# Altium schematic symbol library Schlib_Scondar.SchLib: 28 symbols
Pins are listed as number, name and electrical type; pins without a type are passive.

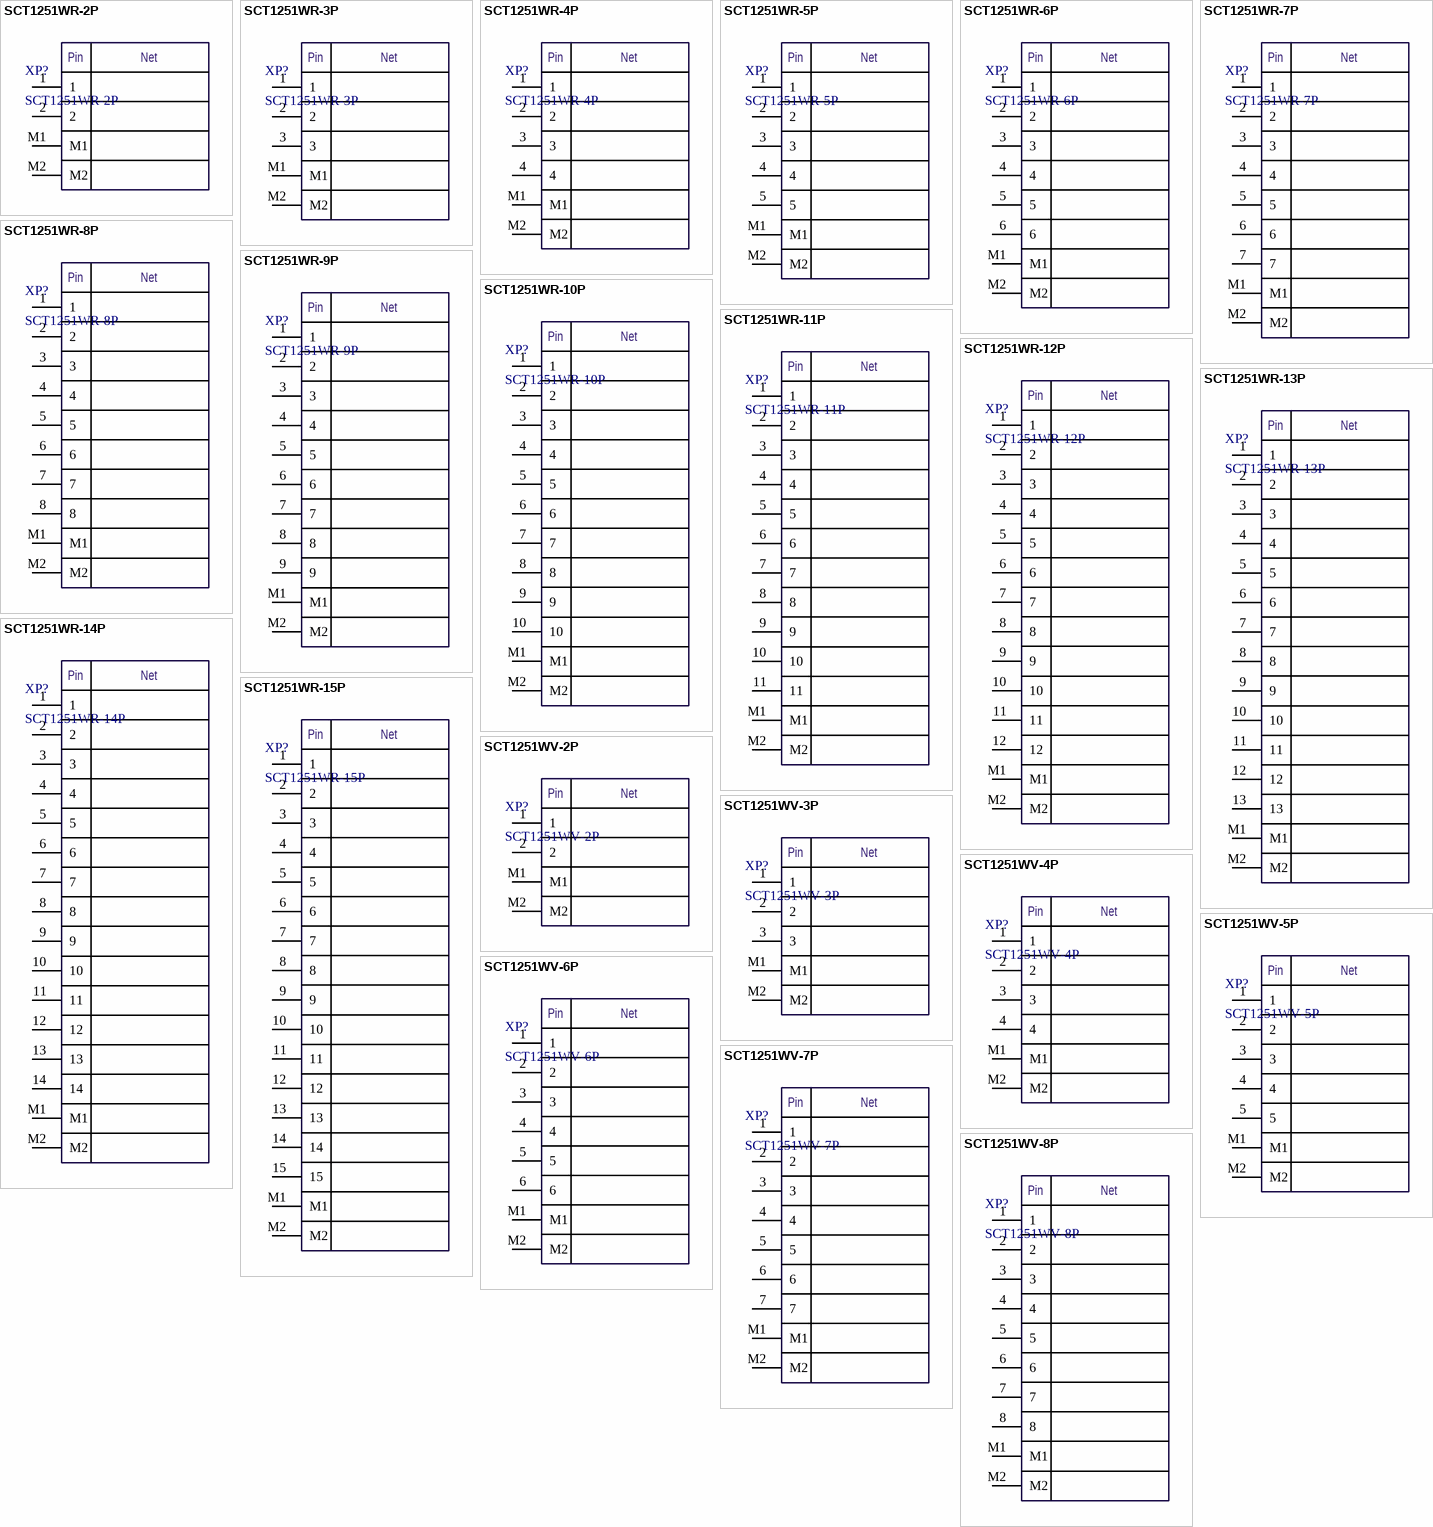
[diagram p0: symbols SCT1251WR-2P to SCT1251WV-8P]

## SCT1251WR-2P
designator XP?
Pico Blade 1.25mm pitch, 2 pos; Manufacturer: Scondar; Part Number: SCT1251WR-2P
footprint SCT1251WR-2P
pins: 1, 2, M1, M2
text: Pin; Net

## SCT1251WR-3P
designator XP?
Pico Blade 1.25mm pitch, 3 pos; Manufacturer: Scondar; Part Number: SCT1251WR-3P
footprint SCT1251WR-3P
pins: 1, 2, 3, M1, M2
text: Pin; Net

## SCT1251WR-4P
designator XP?
Pico Blade 1.25mm pitch, 4 pos; Manufacturer: Scondar; Part Number: SCT1251WR-4P
footprint SCT1251WR-4P
pins: 1, 2, 3, 4, M1, M2
text: Pin; Net

## SCT1251WR-5P
designator XP?
Pico Blade 1.25mm pitch, 5 pos; Manufacturer: Scondar; Part Number: SCT1251WR-5P
footprint SCT1251WR-5P
pins: 1, 2, 3, 4, 5, M1, M2
text: Pin; Net

## SCT1251WR-6P
designator XP?
Pico Blade 1.25mm pitch, 6 pos; Manufacturer: Scondar; Part Number: SCT1251WR-6P
footprint SCT1251WR-6P
pins: 1, 2, 3, 4, 5, 6, M1, M2
text: Pin; Net

## SCT1251WR-7P
designator XP?
Pico Blade 1.25mm pitch, 7 pos; Manufacturer: Scondar; Part Number: SCT1251WR-7P
footprint SCT1251WR-7P
pins: 1, 2, 3, 4, 5, 6, 7, M1, M2
text: Pin; Net

## SCT1251WR-8P
designator XP?
Pico Blade 1.25mm pitch, 8 pos; Manufacturer: Scondar; Part Number: SCT1251WR-8P
footprint SCT1251WR-8P
pins: 1, 2, 3, 4, 5, 6, 7, 8, M1, M2
text: Pin; Net

## SCT1251WR-9P
designator XP?
Pico Blade 1.25mm pitch, 9 pos; Manufacturer: Scondar; Part Number: SCT1251WR-9P
footprint SCT1251WR-9P
pins: 1, 2, 3, 4, 5, 6, 7, 8, 9, M1, M2
text: Pin; Net

## SCT1251WR-10P
designator XP?
Pico Blade 1.25mm pitch, 10 pos; Manufacturer: Scondar; Part Number: SCT1251WR-10P
footprint SCT1251WR-10P
pins: 1, 2, 3, 4, 5, 6, 7, 8, 9, 10, M1, M2
text: Pin; Net

## SCT1251WR-11P
designator XP?
Pico Blade 1.25mm pitch, 11 pos; Manufacturer: Scondar; Part Number: SCT1251WR-11P
footprint SCT1251WR-11P
pins: 1, 2, 3, 4, 5, 6, 7, 8, 9, 10, 11, M1, M2
text: Pin; Net

## SCT1251WR-12P
designator XP?
Pico Blade 1.25mm pitch, 12 pos; Manufacturer: Scondar; Part Number: SCT1251WR-12P
footprint SCT1251WR-12P
pins: 1, 2, 3, 4, 5, 6, 7, 8, 9, 10, 11, 12, M1, M2
text: Pin; Net

## SCT1251WR-13P
designator XP?
Pico Blade 1.25mm pitch, 13 pos; Manufacturer: Scondar; Part Number: SCT1251WR-13P
footprint SCT1251WR-13P
pins: 1, 2, 3, 4, 5, 6, 7, 8, 9, 10, 11, 12, 13, M1, M2
text: Pin; Net

## SCT1251WR-14P
designator XP?
Pico Blade 1.25mm pitch, 14 pos; Manufacturer: Scondar; Part Number: SCT1251WR-14P
footprint SCT1251WR-14P
pins: 1, 2, 3, 4, 5, 6, 7, 8, 9, 10, 11, 12, 13, 14, M1, M2
text: Pin; Net

## SCT1251WR-15P
designator XP?
Pico Blade 1.25mm pitch, 15 pos; Manufacturer: Scondar; Part Number: SCT1251WR-15P
footprint SCT1251WR-15P
pins: 1, 2, 3, 4, 5, 6, 7, 8, 9, 10, 11, 12, 13, 14, 15, M1, M2
text: Pin; Net

## SCT1251WV-2P
designator XP?
Pico Blade 1.25mm pitch, 2 pos; Manufacturer: Scondar; Part Number: SCT1251WV-2P
footprint SCT1251WV-2P
pins: 1, 2, M1, M2
text: Pin; Net

## SCT1251WV-3P
designator XP?
Pico Blade 1.25mm pitch, 3 pos; Manufacturer: Scondar; Part Number: SCT1251WV-3P
footprint SCT1251WV-3P
pins: 1, 2, 3, M1, M2
text: Pin; Net

## SCT1251WV-4P
designator XP?
Pico Blade 1.25mm pitch, 4 pos; Manufacturer: Scondar; Part Number: SCT1251WV-4P
footprint SCT1251WV-4P
pins: 1, 2, 3, 4, M1, M2
text: Pin; Net

## SCT1251WV-5P
designator XP?
Pico Blade 1.25mm pitch, 5 pos; Manufacturer: Scondar; Part Number: SCT1251WV-5P
footprint SCT1251WV-5P
pins: 1, 2, 3, 4, 5, M1, M2
text: Pin; Net

## SCT1251WV-6P
designator XP?
Pico Blade 1.25mm pitch, 6 pos; Manufacturer: Scondar; Part Number: SCT1251WV-6P
footprint SCT1251WV-6P
pins: 1, 2, 3, 4, 5, 6, M1, M2
text: Pin; Net

## SCT1251WV-7P
designator XP?
Pico Blade 1.25mm pitch, 7 pos; Manufacturer: Scondar; Part Number: SCT1251WV-7P
footprint SCT1251WV-7P
pins: 1, 2, 3, 4, 5, 6, 7, M1, M2
text: Pin; Net

## SCT1251WV-8P
designator XP?
Pico Blade 1.25mm pitch, 8 pos; Manufacturer: Scondar; Part Number: SCT1251WV-8P
footprint SCT1251WV-8P
pins: 1, 2, 3, 4, 5, 6, 7, 8, M1, M2
text: Pin; Net

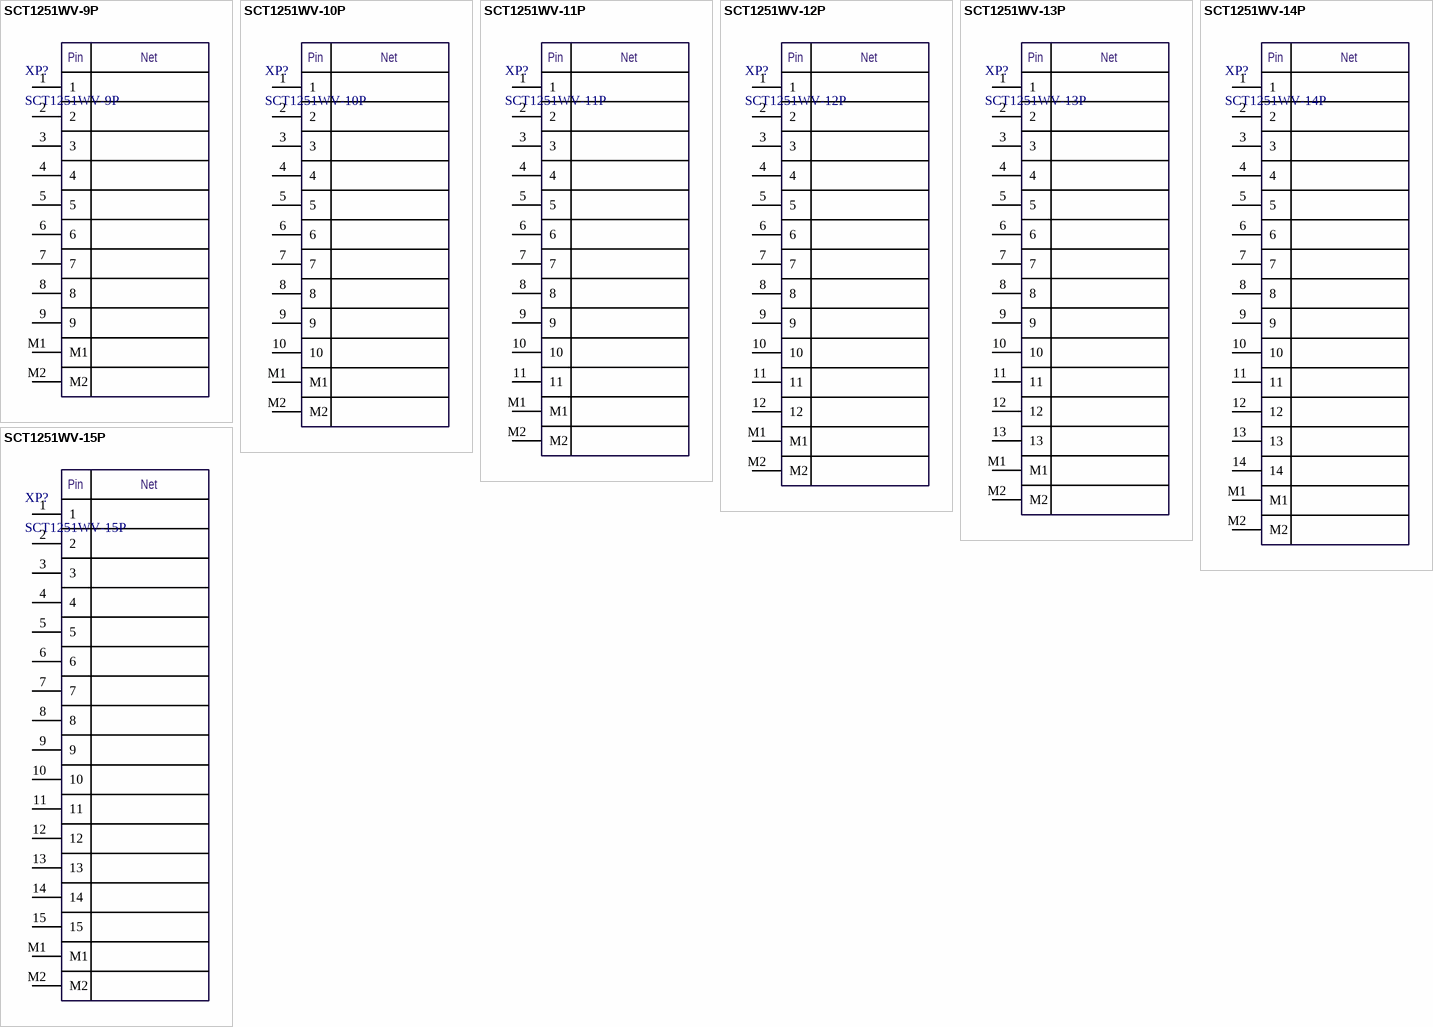
[diagram p1: symbols SCT1251WV-9P to SCT1251WV-15P]

## SCT1251WV-9P
designator XP?
Pico Blade 1.25mm pitch, 9 pos; Manufacturer: Scondar; Part Number: SCT1251WV-9P
footprint SCT1251WV-9P
pins: 1, 2, 3, 4, 5, 6, 7, 8, 9, M1, M2
text: Pin; Net

## SCT1251WV-10P
designator XP?
Pico Blade 1.25mm pitch, 10 pos; Manufacturer: Scondar; Part Number: SCT1251WV-10P
footprint SCT1251WV-10P
pins: 1, 2, 3, 4, 5, 6, 7, 8, 9, 10, M1, M2
text: Pin; Net

## SCT1251WV-11P
designator XP?
Pico Blade 1.25mm pitch, 11 pos; Manufacturer: Scondar; Part Number: SCT1251WV-11P
footprint SCT1251WV-11P
pins: 1, 2, 3, 4, 5, 6, 7, 8, 9, 10, 11, M1, M2
text: Pin; Net

## SCT1251WV-12P
designator XP?
Pico Blade 1.25mm pitch, 12 pos; Manufacturer: Scondar; Part Number: SCT1251WV-12P
footprint SCT1251WV-12P
pins: 1, 2, 3, 4, 5, 6, 7, 8, 9, 10, 11, 12, M1, M2
text: Pin; Net

## SCT1251WV-13P
designator XP?
Pico Blade 1.25mm pitch, 13 pos; Manufacturer: Scondar; Part Number: SCT1251WV-13P
footprint SCT1251WV-13P
pins: 1, 2, 3, 4, 5, 6, 7, 8, 9, 10, 11, 12, 13, M1, M2
text: Pin; Net

## SCT1251WV-14P
designator XP?
Pico Blade 1.25mm pitch, 14 pos; Manufacturer: Scondar; Part Number: SCT1251WV-14P
footprint SCT1251WV-14P
pins: 1, 2, 3, 4, 5, 6, 7, 8, 9, 10, 11, 12, 13, 14, M1, M2
text: Pin; Net

## SCT1251WV-15P
designator XP?
Pico Blade 1.25mm pitch, 15 pos; Manufacturer: Scondar; Part Number: SCT1251WV-15P
footprint SCT1251WV-15P
pins: 1, 2, 3, 4, 5, 6, 7, 8, 9, 10, 11, 12, 13, 14, 15, M1, M2
text: Pin; Net